# Altium schematic symbol library INA214CQDCKRQ1.Schlib: 1 symbol
Pins are listed as number, name and electrical type; pins without a type are passive.

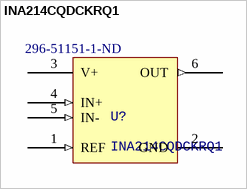
[diagram p0: symbol INA214CQDCKRQ1]

## INA214CQDCKRQ1
designator U?  Supplier Part Number 1: 296-51151-1-ND
IC CURR SENSE 1 CIRCUIT SC70-6; Supplier 1: Digi-Key; ComponentLink1Description: Datasheet; ComponentLink1URL: http://www.ti.com/general/docs/suppproductinfo.tsp?distId=10&gotoUrl=http%3A%2F%2Fwww.ti.com%2Flit%2Fgpn%2Fina213-q1
footprint TI-SOT-SC70 (DCK) (IC CURR SENSE 1 CIRCUIT SC70-6)
pins: 1 REF (in), 2 GND (power), 3 V+ (power), 4 IN+ (in), 5 IN- (in), 6 OUT (out)